# Altium integrated library Analog Devices Data Converters Digital-to-Analog Converters.IntLib: 2231 symbols (part 150 of 181)
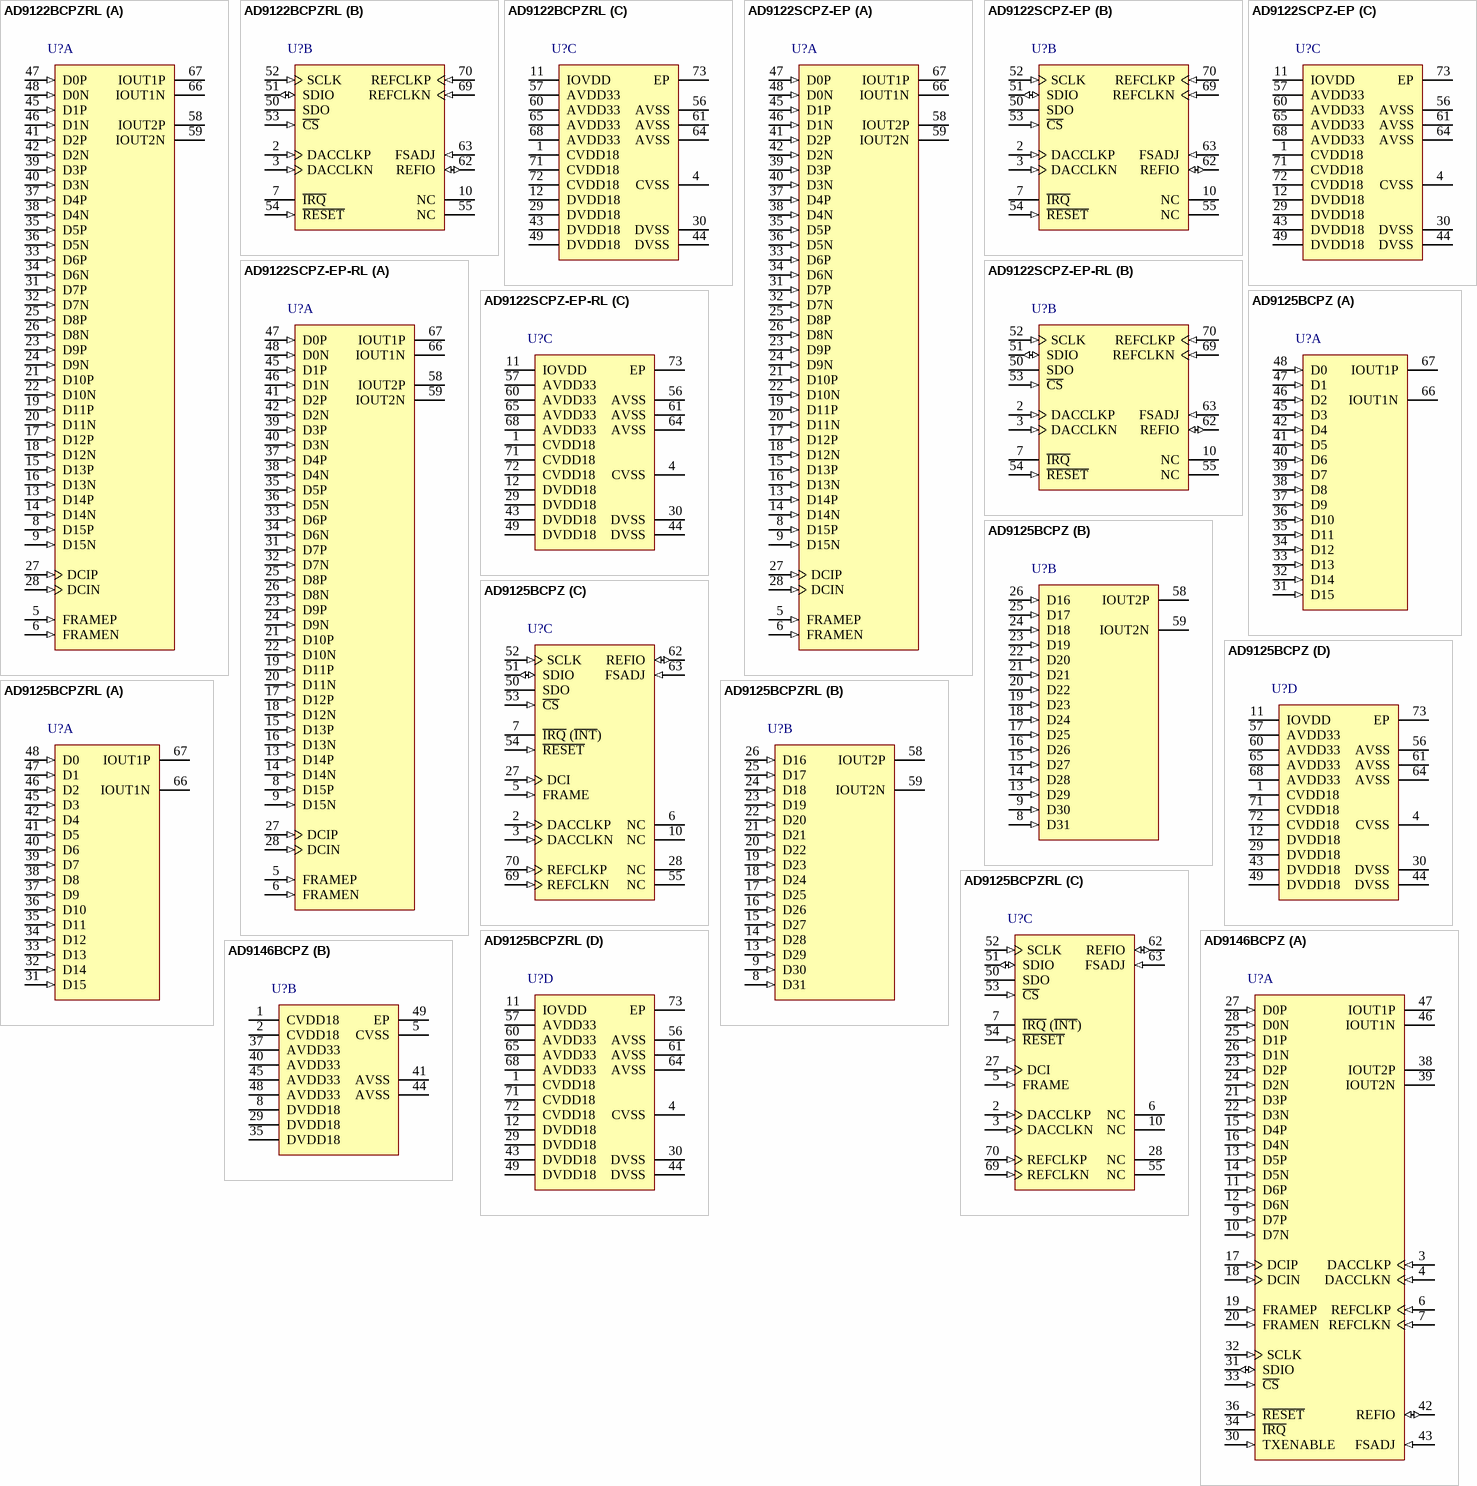
[diagram p263: symbols AD9122BCPZRL to AD9146BCPZ]

## AD9146BCPZ
designator U?
Dual 16-Bit TxDAC, 1230 Msps, -40 to +85 degC, CP-48-13, Pb-Free, Tray; Generic Part Number: AD9146; Manufacturer: Analog Devices; PartNumber: AD9146BCPZ; # DAC Outputs: 2; Max V+: 3.47V; Op Pwr Diss: 1.2W; Resolution (Bits): 16; Single Supply: No; DatasheetVersion: Rev.A; PackageVersion: 04-26-2010-A; PackageReference: CP-48-13; PackageDescription: 48-Lead Lead Frame Chip Scale Package [LFCSP_WQ] 7 x 7 mm Body, Very Very Thin Quad; Supplier 1: Digi-Key; Supplier Part Number 1: AD9146BCPZ-ND; Supplier 2: Farnell; Supplier Part Number 2: 1903601; Supplier 3: Newark; Supplier Part Number 3: 39T6560; Supplier 4: Mouser; Supplier Part Number 4: 584-AD9146BCPZ; Packing: Tray; RoHS: Y; Mounting Technology: Surface Mount; Code_JEDEC: MO-220-WKKD; ComponentLink1Description: Manufacturer URL; ComponentLink1URL: http://www.analog.com/en/index.html; ComponentLink2Description: Datasheet; ComponentLink2URL: http://www.analog.com/static/imported-files/data_sheets/AD9146.PDF; ComponentLink3Description: Package Specification; ComponentLink3URL: http://www.analog.com/static/imported-files/packages/PKG_PDF/LFCSP(CP)/CP_48_13.pdf; ComponentLink4Description: Product URL; ComponentLink4URL: http://www.analog.com/en/digital-to-analog-converters/da-converters/ad9146/products/product.html
footprint CP-48-13_N (QFN, 48-Leads, Body 7x7mm, Pitch 0.5mm, Thermal Pad 5.6x5.6mm, IPC Medium Density)
footprint CP-48-13_L (QFN, 48-Leads, Body 7x7mm, Pitch 0.5mm, Thermal Pad 5.6x5.6mm, IPC High Density)
footprint CP-48-13_M (QFN, 48-Leads, Body 7x7mm, Pitch 0.5mm, Thermal Pad 5.6x5.6mm, IPC Low Density)
part A pins: 3 DACCLKP (in) "DAC Clock Input, Positive.", 4 DACCLKN (in) "DAC Clock Input, Negative.", 6 REFCLKP (in) "PLL Reference Clock Input, Positive. This pin has a secondary function as a synchronization input.", 7 REFCLKN (in) "PLL Reference Clock Input, Negative. This pin has a secondary function as a synchronization input.", 9 D7P (in) "Data Bit 7 (MSB), Positive.", 10 D7N (in) "Data Bit 7 (MSB), Negative.", 11 D6P (in) "Data Bit 6, Positive.", 12 D6N (in) "Data Bit 6, Negative.", 13 D5P (in) "Data Bit 5, Positive.", 14 D5N (in) "Data Bit 5, Negative.", 15 D4P (in) "Data Bit 4, Positive.", 16 D4N (in) "Data Bit 4, Negative.", 17 DCIP (in) "Data Clock Input, Positive.", 18 DCIN (in) "Data Clock Input, Negative.", 19 FRAMEP (in) "Frame Input, Positive.", 20 FRAMEN (in) "Frame Input, Negative.", 21 D3P (in) "Data Bit 3, Positive.", 22 D3N (in) "Data Bit 3, Negative.", 23 D2P (in) "Data Bit 2, Positive.", 24 D2N (in) "Data Bit 2, Negative.", 25 D1P (in) "Data Bit 1, Positive.", 26 D1N (in) "Data Bit 1, Negative.", 27 D0P (in) "Data Bit 0 (LSB), Positive.", 28 D0N (in) "Data Bit 0 (LSB), Negative.", 30 TXENABLE (in) "Active High Transmit Path Enable (CMOS). A low level on this pin clamps the DAC outputs to midscale.", 31 SDIO (io) "Serial Port Data Input/Output (CMOS).", 32 SCLK (in) "Serial Port Clock Input (CMOS).", 33 ~{CS} (in) "Serial Port Chip Select, Active Low (CMOS).", 34 ~{IRQ} (oc) "Interrupt Request. Open-drain, active low output. Pull this pin high external to the device.", 36 ~{RESET} (in) "Reset, Active Low (CMOS).", 38 IOUT2P (hiz) "Q DAC Positive Current Output.", 39 IOUT2N (hiz) "Q DAC Negative Current Output.", 42 REFIO (io) "1.2 V Band Gap Voltage Reference Output. Should be decoupled to AVSS with a 0.1 uF capacitor.", 43 FSADJ (in) "Full-Scale Current Output Adjust. Place a 10 kO resistor from this pin to AVSS.", 46 IOUT1N (hiz) "I DAC Negative Current Output.", 47 IOUT1P (hiz) "I DAC Positive Current Output."
part B pins: 1 CVDD18 (power) "1.8 V Clock Supply. Supplies clock receivers, clock distribution, and PLL circuitry.", 2 CVDD18 (power) "1.8 V Clock Supply. Supplies clock receivers, clock distribution, and PLL circuitry.", 5 CVSS (power) "Clock Supply Common.", 8 DVDD18 (power) "1.8 V Digital Supply. Supplies power to digital core and digital data ports.", 29 DVDD18 (power) "1.8 V Digital Supply. Supplies power to digital core and digital data ports.", 35 DVDD18 (power) "1.8 V Digital Supply. Supplies power to digital core and digital data ports.", 37 AVDD33 (power) "3.3 V Analog Supply.", 40 AVDD33 (power) "3.3 V Analog Supply.", 41 AVSS (power) "Analog Supply Common.", 44 AVSS (power) "Analog Supply Common.", 45 AVDD33 (power) "3.3 V Analog Supply.", 48 AVDD33 (power) "3.3 V Analog Supply.", 49 EP (power) "The exposed pad (EPAD) must be soldered to the ground plane (AVSS). The EPAD provides an electrical,thermal, and mechanical connection to the board."

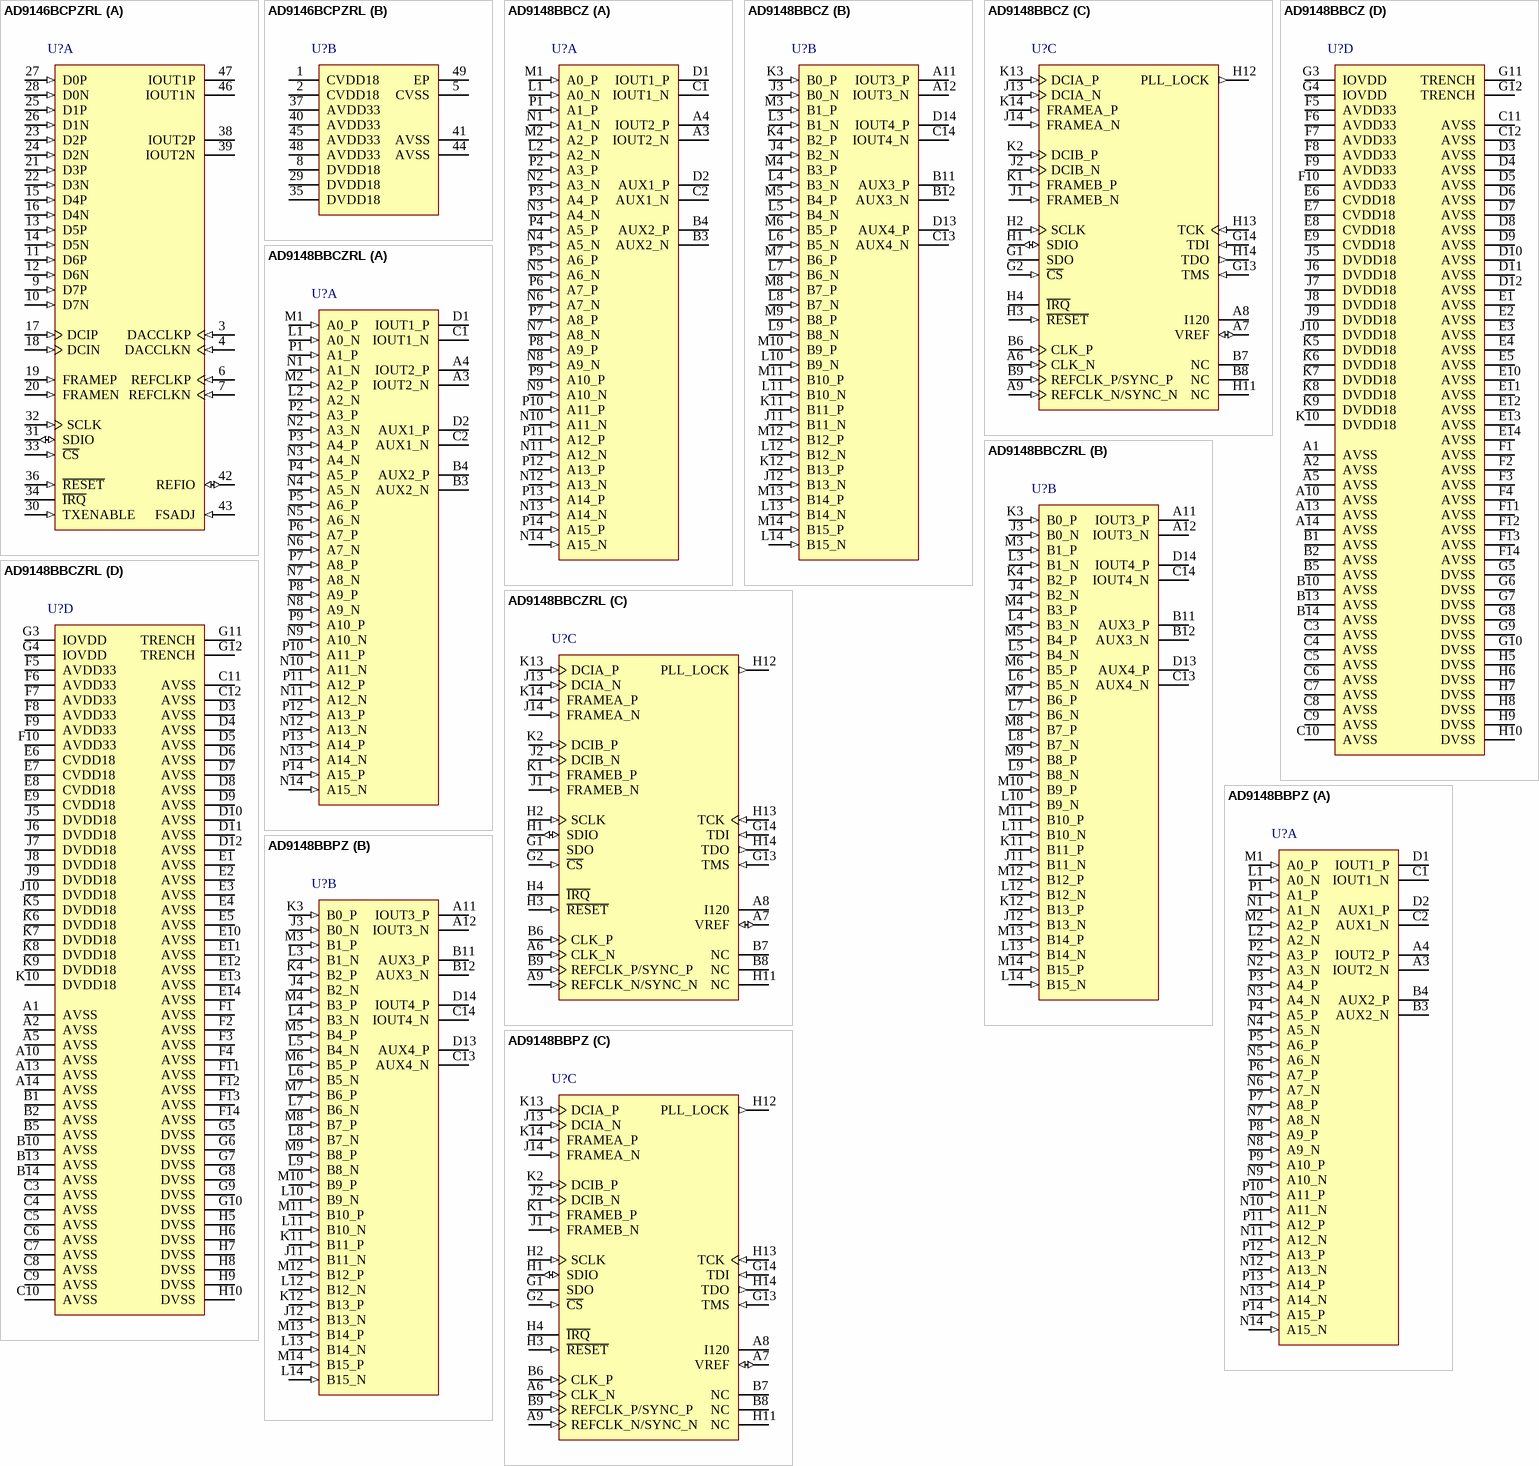
[diagram p85: symbols AD9146BCPZRL to AD9148BBPZ]

## AD9146BCPZRL
designator U?
Dual 16-Bit TxDAC, 1230 Msps, -40 to +85 degC, CP-48-13, Pb-Free, Reel; Generic Part Number: AD9146; Manufacturer: Analog Devices; PartNumber: AD9146BCPZRL; # DAC Outputs: 2; Max V+: 3.47V; Op Pwr Diss: 1.2W; Resolution (Bits): 16; Single Supply: No; DatasheetVersion: Rev.A; PackageVersion: 04-26-2010-A; PackageReference: CP-48-13; PackageDescription: 48-Lead Lead Frame Chip Scale Package [LFCSP_WQ] 7 x 7 mm Body, Very Very Thin Quad; Supplier 1: Digi-Key; Supplier Part Number 1: AD9146BCPZRL-ND; Supplier 2: Mouser; Supplier Part Number 2: 584-AD9146BCPZR; Packing: Reel; RoHS: Y; Mounting Technology: Surface Mount; Code_JEDEC: MO-220-WKKD; ComponentLink1Description: Manufacturer URL; ComponentLink1URL: http://www.analog.com/en/index.html; ComponentLink2Description: Datasheet; ComponentLink2URL: http://www.analog.com/static/imported-files/data_sheets/AD9146.PDF; ComponentLink3Description: Package Specification; ComponentLink3URL: http://www.analog.com/static/imported-files/packages/PKG_PDF/LFCSP(CP)/CP_48_13.pdf; ComponentLink4Description: Product URL; ComponentLink4URL: http://www.analog.com/en/digital-to-analog-converters/da-converters/ad9146/products/product.html
footprint CP-48-13_N (QFN, 48-Leads, Body 7x7mm, Pitch 0.5mm, Thermal Pad 5.6x5.6mm, IPC Medium Density)
footprint CP-48-13_L (QFN, 48-Leads, Body 7x7mm, Pitch 0.5mm, Thermal Pad 5.6x5.6mm, IPC High Density)
footprint CP-48-13_M (QFN, 48-Leads, Body 7x7mm, Pitch 0.5mm, Thermal Pad 5.6x5.6mm, IPC Low Density)
part A pins: 3 DACCLKP (in) "DAC Clock Input, Positive.", 4 DACCLKN (in) "DAC Clock Input, Negative.", 6 REFCLKP (in) "PLL Reference Clock Input, Positive. This pin has a secondary function as a synchronization input.", 7 REFCLKN (in) "PLL Reference Clock Input, Negative. This pin has a secondary function as a synchronization input.", 9 D7P (in) "Data Bit 7 (MSB), Positive.", 10 D7N (in) "Data Bit 7 (MSB), Negative.", 11 D6P (in) "Data Bit 6, Positive.", 12 D6N (in) "Data Bit 6, Negative.", 13 D5P (in) "Data Bit 5, Positive.", 14 D5N (in) "Data Bit 5, Negative.", 15 D4P (in) "Data Bit 4, Positive.", 16 D4N (in) "Data Bit 4, Negative.", 17 DCIP (in) "Data Clock Input, Positive.", 18 DCIN (in) "Data Clock Input, Negative.", 19 FRAMEP (in) "Frame Input, Positive.", 20 FRAMEN (in) "Frame Input, Negative.", 21 D3P (in) "Data Bit 3, Positive.", 22 D3N (in) "Data Bit 3, Negative.", 23 D2P (in) "Data Bit 2, Positive.", 24 D2N (in) "Data Bit 2, Negative.", 25 D1P (in) "Data Bit 1, Positive.", 26 D1N (in) "Data Bit 1, Negative.", 27 D0P (in) "Data Bit 0 (LSB), Positive.", 28 D0N (in) "Data Bit 0 (LSB), Negative.", 30 TXENABLE (in) "Active High Transmit Path Enable (CMOS). A low level on this pin clamps the DAC outputs to midscale.", 31 SDIO (io) "Serial Port Data Input/Output (CMOS).", 32 SCLK (in) "Serial Port Clock Input (CMOS).", 33 ~{CS} (in) "Serial Port Chip Select, Active Low (CMOS).", 34 ~{IRQ} (oc) "Interrupt Request. Open-drain, active low output. Pull this pin high external to the device.", 36 ~{RESET} (in) "Reset, Active Low (CMOS).", 38 IOUT2P (hiz) "Q DAC Positive Current Output.", 39 IOUT2N (hiz) "Q DAC Negative Current Output.", 42 REFIO (io) "1.2 V Band Gap Voltage Reference Output. Should be decoupled to AVSS with a 0.1 uF capacitor.", 43 FSADJ (in) "Full-Scale Current Output Adjust. Place a 10 kO resistor from this pin to AVSS.", 46 IOUT1N (hiz) "I DAC Negative Current Output.", 47 IOUT1P (hiz) "I DAC Positive Current Output."
part B pins: 1 CVDD18 (power) "1.8 V Clock Supply. Supplies clock receivers, clock distribution, and PLL circuitry.", 2 CVDD18 (power) "1.8 V Clock Supply. Supplies clock receivers, clock distribution, and PLL circuitry.", 5 CVSS (power) "Clock Supply Common.", 8 DVDD18 (power) "1.8 V Digital Supply. Supplies power to digital core and digital data ports.", 29 DVDD18 (power) "1.8 V Digital Supply. Supplies power to digital core and digital data ports.", 35 DVDD18 (power) "1.8 V Digital Supply. Supplies power to digital core and digital data ports.", 37 AVDD33 (power) "3.3 V Analog Supply.", 40 AVDD33 (power) "3.3 V Analog Supply.", 41 AVSS (power) "Analog Supply Common.", 44 AVSS (power) "Analog Supply Common.", 45 AVDD33 (power) "3.3 V Analog Supply.", 48 AVDD33 (power) "3.3 V Analog Supply.", 49 EP (power) "The exposed pad (EPAD) must be soldered to the ground plane (AVSS). The EPAD provides an electrical,thermal, and mechanical connection to the board."

## AD9148BBCZ
designator U?
Quad 16-Bit TxDAC, 1 Gsps, -40 to +85 degC, BC-196-7, Pb-Free, Tray; Generic Part Number: AD9148; Manufacturer: Analog Devices; PartNumber: AD9148BBCZ; # DAC Outputs: 4; Max V+: 3.47V; Op Pwr Diss: 3W; Resolution (Bits): 16; Single Supply: No; DatasheetVersion: Rev.B; PackageVersion: 11-18-2011-B; PackageReference: BC-196-7; PackageDescription: 196-Ball Chip Scale Package Ball Grid Array [CSP_BGA]; Supplier 1: Digi-Key; Supplier Part Number 1: AD9148BBCZ-ND; Supplier 2: Newark; Supplier Part Number 2: 74R6014; Supplier 3: Mouser; Supplier Part Number 3: 584-AD9148BBCZ; Packing: Tray; RoHS: Y; Mounting Technology: Surface Mount; Code_JEDEC: MO-275-GGAB-1; ComponentLink1Description: Manufacturer URL; ComponentLink1URL: http://www.analog.com/en/index.html; ComponentLink2Description: Datasheet; ComponentLink2URL: http://www.analog.com/static/imported-files/data_sheets/AD9148.pdf; ComponentLink3Description: Package Specification; ComponentLink3URL: http://www.analog.com/static/imported-files/packages/PKG_PDF/CSPBGA%20(BC)/BC_196_7.pdf; ComponentLink4Description: Product URL; ComponentLink4URL: http://www.analog.com/en/digital-to-analog-converters/da-converters/ad9148/products/product.html
footprint BC-196-7 (BGA, 196-Leads, Body 12x12mm, Pitch 0.8mm)
part A pins: A3 IOUT2_N (hiz) "DAC 2 Complementary Output Current.", A4 IOUT2_P (hiz) "DAC 2 Positive Output Current.", B3 AUX2_N (hiz) "Auxiliary DAC 2 Complementary Output Current.", B4 AUX2_P (hiz) "Auxiliary DAC 2 Positive Output Current.", C1 IOUT1_N (hiz) "DAC 1 Complementary Output Current.", C2 AUX1_N (hiz) "Auxiliary DAC 1 Complementary Output Current.", D1 IOUT1_P (hiz) "DAC 1 Positive Output Current.", D2 AUX1_P (hiz) "Auxiliary DAC 1 Positive Output Current.", L1 A0_N (in) "LVDS Data Input Pair, Port A (LSB).", L2 A2_N (in) "LVDS Data Input Pair, Port A.", M1 A0_P (in) "LVDS Data Input Pair, Port A (LSB).", M2 A2_P (in) "LVDS Data Input Pair, Port A.", N1 A1_N (in) "LVDS Data Input Pair, Port A.", N2 A3_N (in) "LVDS Data Input Pair, Port A.", N3 A4_N (in) "LVDS Data Input Pair, Port A.", N4 A5_N (in) "LVDS Data Input Pair, Port A.", N5 A6_N (in) "LVDS Data Input Pair, Port A.", N6 A7_N (in) "LVDS Data Input Pair, Port A.", N7 A8_N (in) "LVDS Data Input Pair, Port A.", N8 A9_N (in) "LVDS Data Input Pair, Port A.", N9 A10_N (in) "LVDS Data Input Pair, Port A.", N10 A11_N (in) "LVDS Data Input Pair, Port A.", N11 A12_N (in) "LVDS Data Input Pair, Port A.", N12 A13_N (in) "LVDS Data Input Pair, Port A.", N13 A14_N (in) "LVDS Data Input Pair, Port A.", N14 A15_N (in) "LVDS Data Input Pair, Port A (MSB).", P1 A1_P (in) "LVDS Data Input Pair, Port A.", P2 A3_P (in) "LVDS Data Input Pair, Port A.", P3 A4_P (in) "LVDS Data Input Pair, Port A.", P4 A5_P (in) "LVDS Data Input Pair, Port A.", P5 A6_P (in) "LVDS Data Input Pair, Port A.", P6 A7_P (in) "LVDS Data Input Pair, Port A.", P7 A8_P (in) "LVDS Data Input Pair, Port A.", P8 A9_P (in) "LVDS Data Input Pair, Port A.", P9 A10_P (in) "LVDS Data Input Pair, Port A.", P10 A11_P (in) "LVDS Data Input Pair, Port A.", P11 A12_P (in) "LVDS Data Input Pair, Port A.", P12 A13_P (in) "LVDS Data Input Pair, Port A.", P13 A14_P (in) "LVDS Data Input Pair, Port A.", P14 A15_P (in) "LVDS Data Input Pair, Port A (MSB)."
part B pins: A11 IOUT3_P (hiz) "DAC 3 Positive Output Current.", A12 IOUT3_N (hiz) "DAC 3 Complementary Output Current.", B11 AUX3_P (hiz) "Auxiliary DAC 3 Positive Output Current.", B12 AUX3_N (hiz) "Auxiliary DAC 3 Complementary Output Current.", C13 AUX4_N (hiz) "Auxiliary DAC 4 Complementary Output Current.", C14 IOUT4_N (hiz) "DAC 4 Complementary Output Current.", D13 AUX4_P (hiz) "Auxiliary DAC 4 Positive Output Current.", D14 IOUT4_P (hiz) "DAC 4 Positive Output Current.", J3 B0_N (in) "LVDS Data Input Pair, Port B (LSB).", J4 B2_N (in) "LVDS Data Input Pair, Port B.", J11 B11_N (in) "LVDS Data Input Pair, Port B.", J12 B13_N (in) "LVDS Data Input Pair, Port B.", K3 B0_P (in) "LVDS Data Input Pair, Port B (LSB).", K4 B2_P (in) "LVDS Data Input Pair, Port B.", K11 B11_P (in) "LVDS Data Input Pair, Port B.", K12 B13_P (in) "LVDS Data Input Pair, Port B.", L3 B1_N (in) "LVDS Data Input Pair, Port B.", L4 B3_N (in) "LVDS Data Input Pair, Port B.", L5 B4_N (in) "LVDS Data Input Pair, Port B.", L6 B5_N (in) "LVDS Data Input Pair, Port B.", L7 B6_N (in) "LVDS Data Input Pair, Port B.", L8 B7_N (in) "LVDS Data Input Pair, Port B.", L9 B8_N (in) "LVDS Data Input Pair, Port B.", L10 B9_N (in) "LVDS Data Input Pair, Port B.", L11 B10_N (in) "LVDS Data Input Pair, Port B.", L12 B12_N (in) "LVDS Data Input Pair, Port B.", L13 B14_N (in) "LVDS Data Input Pair, Port B.", L14 B15_N (in) "LVDS Data Input Pair, Port B (MSB).", M3 B1_P (in) "LVDS Data Input Pair, Port B.", M4 B3_P (in) "LVDS Data Input Pair, Port B.", M5 B4_P (in) "LVDS Data Input Pair, Port B.", M6 B5_P (in) "LVDS Data Input Pair, Port B.", M7 B6_P (in) "LVDS Data Input Pair, Port B.", M8 B7_P (in) "LVDS Data Input Pair, Port B.", M9 B8_P (in) "LVDS Data Input Pair, Port B.", M10 B9_P (in) "LVDS Data Input Pair, Port B.", M11 B10_P (in) "LVDS Data Input Pair, Port B.", M12 B12_P (in) "LVDS Data Input Pair, Port B.", M13 B14_P (in) "LVDS Data Input Pair, Port B.", M14 B15_P (in) "LVDS Data Input Pair, Port B (MSB)."
part C pins: A6 CLK_N (in) "Negative DAC Clock Input (CLK).", A7 VREF (io) "Band Gap Voltage Reference I/O. Decouple to analog ground via a 0.1 uF capacitor. Output impedance is approximately 5 kohm.", A8 I120 "Tie to analog ground via a 10 kohm resistor to generate a 120 uA reference current.", A9 REFCLK_N/SYNC_N (in) "PLL Reference Clock Input (REFCLK_N). This pin has a secondary function as a synchronization input (SYNC_N).", B6 CLK_P (in) "Positive DAC Clock Input (CLK).", B7 NC "No Connect. Do not connect to this pin.", B8 NC "No Connect. Do not connect to this pin.", B9 REFCLK_P/SYNC_P (in) "PLL Reference Clock Input (REFCLK_P). This pin has a secondary function as a synchronization input (SYNC_P).", G1 SDO (hiz) "Serial Data Output for SPI.", G2 ~{CS} (in) "Active Low Chip Select for SPI.", G13 TMS (in) "Reserved for Future Use. Connect to DVSS.", G14 TDI (in) "Reserved for Future Use. Connect to DVSS.", H1 SDIO (io) "Serial Data Input/Output for SPI.", H2 SCLK (in) "Qualifying Clock Input for SPI.", H3 ~{RESET} (in) "An active low LVCMOS input resets the device. Pull up to IOVDD.", H4 ~{IRQ} (oc) "Active Low Open-Drain Interrupt Request Output. Pull up to IOVDD with a 10 kohm resistor.", H11 NC "No Connect. Do not connect to this pin.", H12 PLL_LOCK (out) "Active High LVCMOS Output. It indicates the lock status of the PLL circuitry.", H13 TCK (in) "Reserved for Future Use. Connect to DVSS.", H14 TDO (out) "Reserved for Future Use. Leave unconnected.", J1 FRAMEB_N (in) "LVDS Frame Input for Port B. Tie to LVDS logic low if not used. Recommended external bias circuit is shown in Figure 49.", J2 DCIB_N (in) "LVDS Data Clock Input Pair for Port B.", J13 DCIA_N (in) "LVDS Data Clock Input Pair for Port A.", J14 FRAMEA_N (in) "LVDS Frame Input for Port A. Tie to LVDS logic low if not used. Recommended external bias circuit is shown in Figure 49.", K1 FRAMEB_P (in) "LVDS Frame Input for Port B. Tie to LVDS logic low if not used. Recommended external bias circuit is shown in Figure 49.", K2 DCIB_P (in) "LVDS Data Clock Input Pair for Port B.", K13 DCIA_P (in) "LVDS Data Clock Input Pair for Port A.", K14 FRAMEA_P (in) "LVDS Frame Input for Port A. Tie to LVDS logic low if not used. Recommended external bias circuit is shown in Figure 49."
part D pins: A1 AVSS (power) "Analog Supply Ground.", A2 AVSS (power) "Analog Supply Ground.", A5 AVSS (power) "Analog Supply Ground.", A10 AVSS (power) "Analog Supply Ground.", A13 AVSS (power) "Analog Supply Ground.", A14 AVSS (power) "Analog Supply Ground.", B1 AVSS (power) "Analog Supply Ground.", B2 AVSS (power) "Analog Supply Ground.", B5 AVSS (power) "Analog Supply Ground.", B10 AVSS (power) "Analog Supply Ground.", B13 AVSS (power) "Analog Supply Ground.", B14 AVSS (power) "Analog Supply Ground.", C3 AVSS (power) "Analog Supply Ground.", C4 AVSS (power) "Analog Supply Ground.", C5 AVSS (power) "Analog Supply Ground.", C6 AVSS (power) "Analog Supply Ground.", C7 AVSS (power) "Analog Supply Ground.", C8 AVSS (power) "Analog Supply Ground.", C9 AVSS (power) "Analog Supply Ground.", C10 AVSS (power) "Analog Supply Ground.", C11 AVSS (power) "Analog Supply Ground.", C12 AVSS (power) "Analog Supply Ground.", D3 AVSS (power) "Analog Supply Ground.", D4 AVSS (power) "Analog Supply Ground.", D5 AVSS (power) "Analog Supply Ground.", D6 AVSS (power) "Analog Supply Ground.", D7 AVSS (power) "Analog Supply Ground.", D8 AVSS (power) "Analog Supply Ground.", D9 AVSS (power) "Analog Supply Ground.", D10 AVSS (power) "Analog Supply Ground.", D11 AVSS (power) "Analog Supply Ground.", D12 AVSS (power) "Analog Supply Ground.", E1 AVSS (power) "Analog Supply Ground.", E2 AVSS (power) "Analog Supply Ground.", E3 AVSS (power) "Analog Supply Ground.", E4 AVSS (power) "Analog Supply Ground.", E5 AVSS (power) "Analog Supply Ground.", E6 CVDD18 (power) "1.8 V Clock Supply.", E7 CVDD18 (power) "1.8 V Clock Supply.", E8 CVDD18 (power) "1.8 V Clock Supply.", E9 CVDD18 (power) "1.8 V Clock Supply.", E10 AVSS (power) "Analog Supply Ground.", E11 AVSS (power) "Analog Supply Ground.", E12 AVSS (power) "Analog Supply Ground.", E13 AVSS (power) "Analog Supply Ground.", E14 AVSS (power) "Analog Supply Ground.", F1 AVSS (power) "Analog Supply Ground.", F2 AVSS (power) "Analog Supply Ground.", F3 AVSS (power) "Analog Supply Ground.", F4 AVSS (power) "Analog Supply Ground.", F5 AVDD33 (power) "3.3 V Analog Supply.", F6 AVDD33 (power) "3.3 V Analog Supply.", F7 AVDD33 (power) "3.3 V Analog Supply.", F8 AVDD33 (power) "3.3 V Analog Supply.", F9 AVDD33 (power) "3.3 V Analog Supply.", F10 AVDD33 (power) "3.3 V Analog Supply.", F11 AVSS (power) "Analog Supply Ground.", F12 AVSS (power) "Analog Supply Ground.", F13 AVSS (power) "Analog Supply Ground.", F14 AVSS (power) "Analog Supply Ground.", G3 IOVDD (power) "Supply for Serial Ports (SPI and TAP), R\E\S\E\T\ and I\R\Q\. 1.8 V to 3.3 V can be supplied to these pins.", G4 IOVDD (power) "Supply for Serial Ports (SPI and TAP), R\E\S\E\T\ and I\R\Q\. 1.8 V to 3.3 V can be supplied to these pins.", G5 DVSS (power) "Digital Supply Ground.", G6 DVSS (power) "Digital Supply Ground.", G7 DVSS (power) "Digital Supply Ground.", G8 DVSS (power) "Digital Supply Ground.", G9 DVSS (power) "Digital Supply Ground.", G10 DVSS (power) "Digital Supply Ground.", G11 TRENCH (power) "Connect this pin to VSS.", G12 TRENCH (power) "Connect this pin to VSS.", H5 DVSS (power) "Digital Supply Ground.", H6 DVSS (power) "Digital Supply Ground.", H7 DVSS (power) "Digital Supply Ground.", H8 DVSS (power) "Digital Supply Ground.", H9 DVSS (power) "Digital Supply Ground.", H10 DVSS (power) "Digital Supply Ground.", J5 DVDD18 (power) "1.8 V Digital Supply.", J6 DVDD18 (power) "1.8 V Digital Supply.", J7 DVDD18 (power) "1.8 V Digital Supply.", J8 DVDD18 (power) "1.8 V Digital Supply.", J9 DVDD18 (power) "1.8 V Digital Supply.", J10 DVDD18 (power) "1.8 V Digital Supply.", K5 DVDD18 (power) "1.8 V Digital Supply.", K6 DVDD18 (power) "1.8 V Digital Supply.", K7 DVDD18 (power) "1.8 V Digital Supply.", K8 DVDD18 (power) "1.8 V Digital Supply.", K9 DVDD18 (power) "1.8 V Digital Supply.", K10 DVDD18 (power) "1.8 V Digital Supply."

## AD9148BBCZRL
designator U?
Quad 16-Bit TxDAC, 1 Gsps, -40 to +85 degC, BC-196-7, Pb-Free, Reel; Generic Part Number: AD9148; Manufacturer: Analog Devices; PartNumber: AD9148BBCZRL; # DAC Outputs: 4; Max V+: 3.47V; Op Pwr Diss: 3W; Resolution (Bits): 16; Single Supply: No; DatasheetVersion: Rev.B; PackageVersion: 11-18-2011-B; PackageReference: BC-196-7; PackageDescription: 196-Ball Chip Scale Package Ball Grid Array [CSP_BGA]; Supplier 1: Digi-Key; Supplier Part Number 1: AD9148BBCZRL-ND; Supplier 2: Mouser; Supplier Part Number 2: 584-AD9148BBCZR; Packing: Reel; RoHS: Y; Mounting Technology: Surface Mount; Code_JEDEC: MO-275-GGAB-1; ComponentLink1Description: Manufacturer URL; ComponentLink1URL: http://www.analog.com/en/index.html; ComponentLink2Description: Datasheet; ComponentLink2URL: http://www.analog.com/static/imported-files/data_sheets/AD9148.pdf; ComponentLink3Description: Package Specification; ComponentLink3URL: http://www.analog.com/static/imported-files/packages/PKG_PDF/CSPBGA%20(BC)/BC_196_7.pdf; ComponentLink4Description: Product URL; ComponentLink4URL: http://www.analog.com/en/digital-to-analog-converters/da-converters/ad9148/products/product.html
footprint BC-196-7 (BGA, 196-Leads, Body 12x12mm, Pitch 0.8mm)
part A pins: A3 IOUT2_N (hiz) "DAC 2 Complementary Output Current.", A4 IOUT2_P (hiz) "DAC 2 Positive Output Current.", B3 AUX2_N (hiz) "Auxiliary DAC 2 Complementary Output Current.", B4 AUX2_P (hiz) "Auxiliary DAC 2 Positive Output Current.", C1 IOUT1_N (hiz) "DAC 1 Complementary Output Current.", C2 AUX1_N (hiz) "Auxiliary DAC 1 Complementary Output Current.", D1 IOUT1_P (hiz) "DAC 1 Positive Output Current.", D2 AUX1_P (hiz) "Auxiliary DAC 1 Positive Output Current.", L1 A0_N (in) "LVDS Data Input Pair, Port A (LSB).", L2 A2_N (in) "LVDS Data Input Pair, Port A.", M1 A0_P (in) "LVDS Data Input Pair, Port A (LSB).", M2 A2_P (in) "LVDS Data Input Pair, Port A.", N1 A1_N (in) "LVDS Data Input Pair, Port A.", N2 A3_N (in) "LVDS Data Input Pair, Port A.", N3 A4_N (in) "LVDS Data Input Pair, Port A.", N4 A5_N (in) "LVDS Data Input Pair, Port A.", N5 A6_N (in) "LVDS Data Input Pair, Port A.", N6 A7_N (in) "LVDS Data Input Pair, Port A.", N7 A8_N (in) "LVDS Data Input Pair, Port A.", N8 A9_N (in) "LVDS Data Input Pair, Port A.", N9 A10_N (in) "LVDS Data Input Pair, Port A.", N10 A11_N (in) "LVDS Data Input Pair, Port A.", N11 A12_N (in) "LVDS Data Input Pair, Port A.", N12 A13_N (in) "LVDS Data Input Pair, Port A.", N13 A14_N (in) "LVDS Data Input Pair, Port A.", N14 A15_N (in) "LVDS Data Input Pair, Port A (MSB).", P1 A1_P (in) "LVDS Data Input Pair, Port A.", P2 A3_P (in) "LVDS Data Input Pair, Port A.", P3 A4_P (in) "LVDS Data Input Pair, Port A.", P4 A5_P (in) "LVDS Data Input Pair, Port A.", P5 A6_P (in) "LVDS Data Input Pair, Port A.", P6 A7_P (in) "LVDS Data Input Pair, Port A.", P7 A8_P (in) "LVDS Data Input Pair, Port A.", P8 A9_P (in) "LVDS Data Input Pair, Port A.", P9 A10_P (in) "LVDS Data Input Pair, Port A.", P10 A11_P (in) "LVDS Data Input Pair, Port A.", P11 A12_P (in) "LVDS Data Input Pair, Port A.", P12 A13_P (in) "LVDS Data Input Pair, Port A.", P13 A14_P (in) "LVDS Data Input Pair, Port A.", P14 A15_P (in) "LVDS Data Input Pair, Port A (MSB)."
part B pins: A11 IOUT3_P (hiz) "DAC 3 Positive Output Current.", A12 IOUT3_N (hiz) "DAC 3 Complementary Output Current.", B11 AUX3_P (hiz) "Auxiliary DAC 3 Positive Output Current.", B12 AUX3_N (hiz) "Auxiliary DAC 3 Complementary Output Current.", C13 AUX4_N (hiz) "Auxiliary DAC 4 Complementary Output Current.", C14 IOUT4_N (hiz) "DAC 4 Complementary Output Current.", D13 AUX4_P (hiz) "Auxiliary DAC 4 Positive Output Current.", D14 IOUT4_P (hiz) "DAC 4 Positive Output Current.", J3 B0_N (in) "LVDS Data Input Pair, Port B (LSB).", J4 B2_N (in) "LVDS Data Input Pair, Port B.", J11 B11_N (in) "LVDS Data Input Pair, Port B.", J12 B13_N (in) "LVDS Data Input Pair, Port B.", K3 B0_P (in) "LVDS Data Input Pair, Port B (LSB).", K4 B2_P (in) "LVDS Data Input Pair, Port B.", K11 B11_P (in) "LVDS Data Input Pair, Port B.", K12 B13_P (in) "LVDS Data Input Pair, Port B.", L3 B1_N (in) "LVDS Data Input Pair, Port B.", L4 B3_N (in) "LVDS Data Input Pair, Port B.", L5 B4_N (in) "LVDS Data Input Pair, Port B.", L6 B5_N (in) "LVDS Data Input Pair, Port B.", L7 B6_N (in) "LVDS Data Input Pair, Port B.", L8 B7_N (in) "LVDS Data Input Pair, Port B.", L9 B8_N (in) "LVDS Data Input Pair, Port B.", L10 B9_N (in) "LVDS Data Input Pair, Port B.", L11 B10_N (in) "LVDS Data Input Pair, Port B.", L12 B12_N (in) "LVDS Data Input Pair, Port B.", L13 B14_N (in) "LVDS Data Input Pair, Port B.", L14 B15_N (in) "LVDS Data Input Pair, Port B (MSB).", M3 B1_P (in) "LVDS Data Input Pair, Port B.", M4 B3_P (in) "LVDS Data Input Pair, Port B.", M5 B4_P (in) "LVDS Data Input Pair, Port B.", M6 B5_P (in) "LVDS Data Input Pair, Port B.", M7 B6_P (in) "LVDS Data Input Pair, Port B.", M8 B7_P (in) "LVDS Data Input Pair, Port B.", M9 B8_P (in) "LVDS Data Input Pair, Port B.", M10 B9_P (in) "LVDS Data Input Pair, Port B.", M11 B10_P (in) "LVDS Data Input Pair, Port B.", M12 B12_P (in) "LVDS Data Input Pair, Port B.", M13 B14_P (in) "LVDS Data Input Pair, Port B.", M14 B15_P (in) "LVDS Data Input Pair, Port B (MSB)."
part C pins: A6 CLK_N (in) "Negative DAC Clock Input (CLK).", A7 VREF (io) "Band Gap Voltage Reference I/O. Decouple to analog ground via a 0.1 uF capacitor. Output impedance is approximately 5 kohm.", A8 I120 "Tie to analog ground via a 10 kohm resistor to generate a 120 uA reference current.", A9 REFCLK_N/SYNC_N (in) "PLL Reference Clock Input (REFCLK_N). This pin has a secondary function as a synchronization input (SYNC_N).", B6 CLK_P (in) "Positive DAC Clock Input (CLK).", B7 NC "No Connect. Do not connect to this pin.", B8 NC "No Connect. Do not connect to this pin.", B9 REFCLK_P/SYNC_P (in) "PLL Reference Clock Input (REFCLK_P). This pin has a secondary function as a synchronization input (SYNC_P).", G1 SDO (hiz) "Serial Data Output for SPI.", G2 ~{CS} (in) "Active Low Chip Select for SPI.", G13 TMS (in) "Reserved for Future Use. Connect to DVSS.", G14 TDI (in) "Reserved for Future Use. Connect to DVSS.", H1 SDIO (io) "Serial Data Input/Output for SPI.", H2 SCLK (in) "Qualifying Clock Input for SPI.", H3 ~{RESET} (in) "An active low LVCMOS input resets the device. Pull up to IOVDD.", H4 ~{IRQ} (oc) "Active Low Open-Drain Interrupt Request Output. Pull up to IOVDD with a 10 kohm resistor.", H11 NC "No Connect. Do not connect to this pin.", H12 PLL_LOCK (out) "Active High LVCMOS Output. It indicates the lock status of the PLL circuitry.", H13 TCK (in) "Reserved for Future Use. Connect to DVSS.", H14 TDO (out) "Reserved for Future Use. Leave unconnected.", J1 FRAMEB_N (in) "LVDS Frame Input for Port B. Tie to LVDS logic low if not used. Recommended external bias circuit is shown in Figure 49.", J2 DCIB_N (in) "LVDS Data Clock Input Pair for Port B.", J13 DCIA_N (in) "LVDS Data Clock Input Pair for Port A.", J14 FRAMEA_N (in) "LVDS Frame Input for Port A. Tie to LVDS logic low if not used. Recommended external bias circuit is shown in Figure 49.", K1 FRAMEB_P (in) "LVDS Frame Input for Port B. Tie to LVDS logic low if not used. Recommended external bias circuit is shown in Figure 49.", K2 DCIB_P (in) "LVDS Data Clock Input Pair for Port B.", K13 DCIA_P (in) "LVDS Data Clock Input Pair for Port A.", K14 FRAMEA_P (in) "LVDS Frame Input for Port A. Tie to LVDS logic low if not used. Recommended external bias circuit is shown in Figure 49."
part D pins: A1 AVSS (power) "Analog Supply Ground.", A2 AVSS (power) "Analog Supply Ground.", A5 AVSS (power) "Analog Supply Ground.", A10 AVSS (power) "Analog Supply Ground.", A13 AVSS (power) "Analog Supply Ground.", A14 AVSS (power) "Analog Supply Ground.", B1 AVSS (power) "Analog Supply Ground.", B2 AVSS (power) "Analog Supply Ground.", B5 AVSS (power) "Analog Supply Ground.", B10 AVSS (power) "Analog Supply Ground.", B13 AVSS (power) "Analog Supply Ground.", B14 AVSS (power) "Analog Supply Ground.", C3 AVSS (power) "Analog Supply Ground.", C4 AVSS (power) "Analog Supply Ground.", C5 AVSS (power) "Analog Supply Ground.", C6 AVSS (power) "Analog Supply Ground.", C7 AVSS (power) "Analog Supply Ground.", C8 AVSS (power) "Analog Supply Ground.", C9 AVSS (power) "Analog Supply Ground.", C10 AVSS (power) "Analog Supply Ground.", C11 AVSS (power) "Analog Supply Ground.", C12 AVSS (power) "Analog Supply Ground.", D3 AVSS (power) "Analog Supply Ground.", D4 AVSS (power) "Analog Supply Ground.", D5 AVSS (power) "Analog Supply Ground.", D6 AVSS (power) "Analog Supply Ground.", D7 AVSS (power) "Analog Supply Ground.", D8 AVSS (power) "Analog Supply Ground.", D9 AVSS (power) "Analog Supply Ground.", D10 AVSS (power) "Analog Supply Ground.", D11 AVSS (power) "Analog Supply Ground.", D12 AVSS (power) "Analog Supply Ground.", E1 AVSS (power) "Analog Supply Ground.", E2 AVSS (power) "Analog Supply Ground.", E3 AVSS (power) "Analog Supply Ground.", E4 AVSS (power) "Analog Supply Ground.", E5 AVSS (power) "Analog Supply Ground.", E6 CVDD18 (power) "1.8 V Clock Supply.", E7 CVDD18 (power) "1.8 V Clock Supply.", E8 CVDD18 (power) "1.8 V Clock Supply.", E9 CVDD18 (power) "1.8 V Clock Supply.", E10 AVSS (power) "Analog Supply Ground.", E11 AVSS (power) "Analog Supply Ground.", E12 AVSS (power) "Analog Supply Ground.", E13 AVSS (power) "Analog Supply Ground.", E14 AVSS (power) "Analog Supply Ground.", F1 AVSS (power) "Analog Supply Ground.", F2 AVSS (power) "Analog Supply Ground.", F3 AVSS (power) "Analog Supply Ground.", F4 AVSS (power) "Analog Supply Ground.", F5 AVDD33 (power) "3.3 V Analog Supply.", F6 AVDD33 (power) "3.3 V Analog Supply.", F7 AVDD33 (power) "3.3 V Analog Supply.", F8 AVDD33 (power) "3.3 V Analog Supply.", F9 AVDD33 (power) "3.3 V Analog Supply.", F10 AVDD33 (power) "3.3 V Analog Supply.", F11 AVSS (power) "Analog Supply Ground.", F12 AVSS (power) "Analog Supply Ground.", F13 AVSS (power) "Analog Supply Ground.", F14 AVSS (power) "Analog Supply Ground.", G3 IOVDD (power) "Supply for Serial Ports (SPI and TAP), R\E\S\E\T\ and I\R\Q\. 1.8 V to 3.3 V can be supplied to these pins.", G4 IOVDD (power) "Supply for Serial Ports (SPI and TAP), R\E\S\E\T\ and I\R\Q\. 1.8 V to 3.3 V can be supplied to these pins.", G5 DVSS (power) "Digital Supply Ground.", G6 DVSS (power) "Digital Supply Ground.", G7 DVSS (power) "Digital Supply Ground.", G8 DVSS (power) "Digital Supply Ground.", G9 DVSS (power) "Digital Supply Ground.", G10 DVSS (power) "Digital Supply Ground.", G11 TRENCH (power) "Connect this pin to VSS.", G12 TRENCH (power) "Connect this pin to VSS.", H5 DVSS (power) "Digital Supply Ground.", H6 DVSS (power) "Digital Supply Ground.", H7 DVSS (power) "Digital Supply Ground.", H8 DVSS (power) "Digital Supply Ground.", H9 DVSS (power) "Digital Supply Ground.", H10 DVSS (power) "Digital Supply Ground.", J5 DVDD18 (power) "1.8 V Digital Supply.", J6 DVDD18 (power) "1.8 V Digital Supply.", J7 DVDD18 (power) "1.8 V Digital Supply.", J8 DVDD18 (power) "1.8 V Digital Supply.", J9 DVDD18 (power) "1.8 V Digital Supply.", J10 DVDD18 (power) "1.8 V Digital Supply.", K5 DVDD18 (power) "1.8 V Digital Supply.", K6 DVDD18 (power) "1.8 V Digital Supply.", K7 DVDD18 (power) "1.8 V Digital Supply.", K8 DVDD18 (power) "1.8 V Digital Supply.", K9 DVDD18 (power) "1.8 V Digital Supply.", K10 DVDD18 (power) "1.8 V Digital Supply."

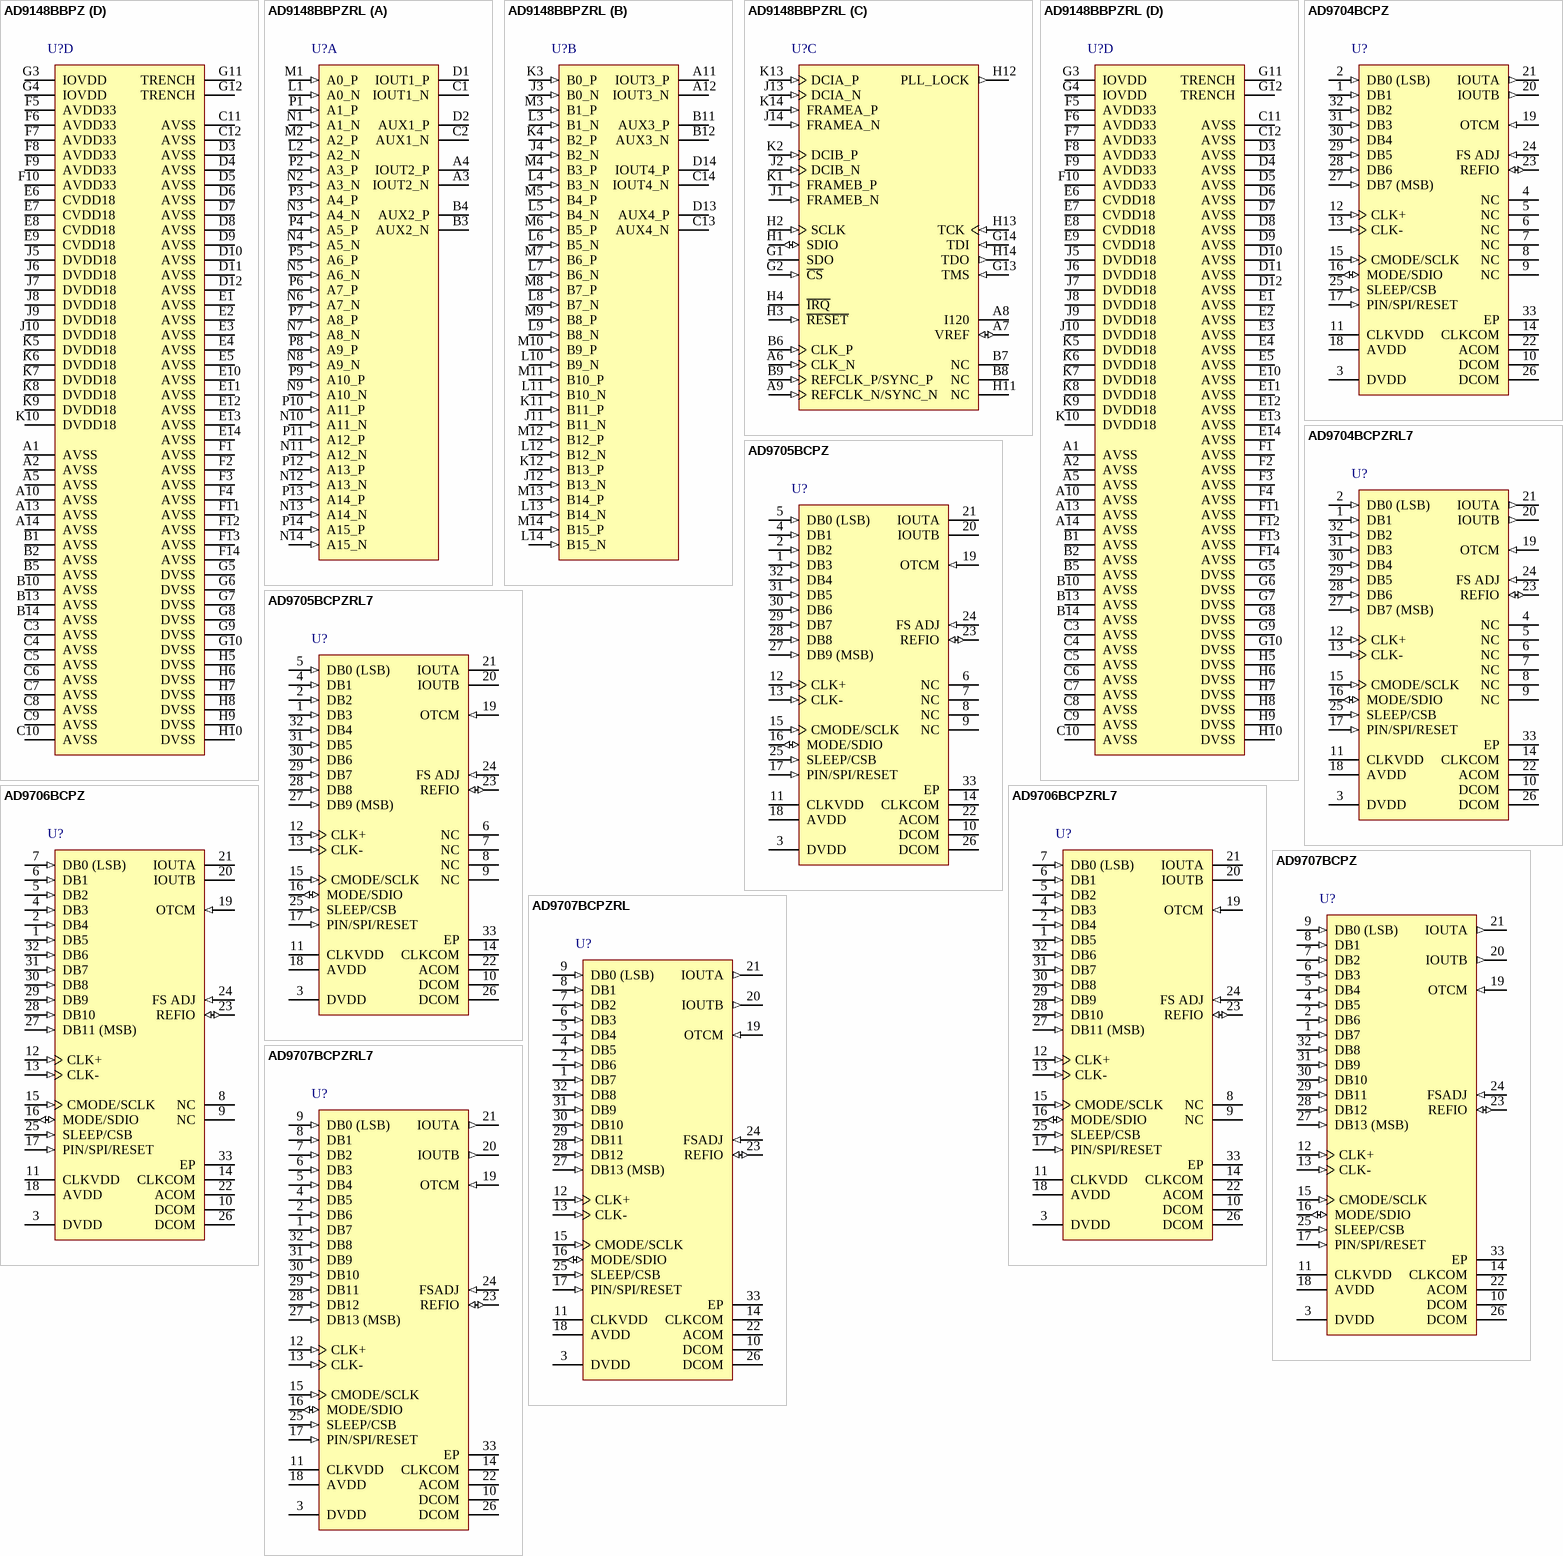
[diagram p86: symbols AD9148BBPZ to AD9707BCPZRL7]

## AD9148BBPZ
designator U?
Quad 16-Bit 1 Gsps TxDAC+ Digital-to-Analog Converter, -40 to +85 degC, BP-196-1, Pb-Free, Tray; Generic Part Number: AD9148; Manufacturer: Analog Devices; PartNumber: AD9148BBPZ; # DAC Outputs: 4; Max V+: 3.47V; Op Pwr Diss: 3W; Resolution (Bits): 16; Single Supply: No; DatasheetVersion: Rev.B; PackageVersion: 02-07-2012A; PackageReference: BP-196-1; PackageDescription: 196-Ball Ball Grid Array, Thermally Enhanced [BGA_ED]; Supplier 1: Digi-Key; Supplier Part Number 1: AD9148BBPZ-ND; Supplier 2: Newark; Supplier Part Number 2: 83R9368; Supplier 3: Mouser; Supplier Part Number 3: 584-AD9148BBPZ; Packing: Tray; RoHS: Y; Mounting Technology: Surface Mount; Code_JEDEC: MO-192; ComponentLink1Description: Manufacturer URL; ComponentLink1URL: http://www.analog.com/en/index.html; ComponentLink2Description: Datasheet; ComponentLink2URL: http://www.analog.com/static/imported-files/data_sheets/AD9148.pdf; ComponentLink3Description: Product URL; ComponentLink3URL: http://www.analog.com/en/digital-to-analog-converters/da-converters/ad9148/products/product.html
footprint BP-196-1 (BGA, 196-Leads, Body 12x12mm, Pitch 0.8mm)
part A pins: A3 IOUT2_N (hiz) "DAC 2 Complementary Output Current.", A4 IOUT2_P (hiz) "DAC 2 Positive Output Current.", B3 AUX2_N (hiz) "Auxiliary DAC 2 Complementary Output Current.", B4 AUX2_P (hiz) "Auxiliary DAC 2 Positive Output Current.", C1 IOUT1_N (hiz) "DAC 1 Complementary Output Current.", C2 AUX1_N (hiz) "Auxiliary DAC 1 Complementary Output Current.", D1 IOUT1_P (hiz) "DAC 1 Positive Output Current.", D2 AUX1_P (hiz) "Auxiliary DAC 1 Positive Output Current.", L1 A0_N (in) "LVDS Data Input Pair, Port A (LSB).", L2 A2_N (in) "LVDS Data Input Pair, Port A.", M1 A0_P (in) "LVDS Data Input Pair, Port A (LSB).", M2 A2_P (in) "LVDS Data Input Pair, Port A.", N1 A1_N (in) "LVDS Data Input Pair, Port A.", N2 A3_N (in) "LVDS Data Input Pair, Port A.", N3 A4_N (in) "LVDS Data Input Pair, Port A.", N4 A5_N (in) "LVDS Data Input Pair, Port A.", N5 A6_N (in) "LVDS Data Input Pair, Port A.", N6 A7_N (in) "LVDS Data Input Pair, Port A.", N7 A8_N (in) "LVDS Data Input Pair, Port A.", N8 A9_N (in) "LVDS Data Input Pair, Port A.", N9 A10_N (in) "LVDS Data Input Pair, Port A.", N10 A11_N (in) "LVDS Data Input Pair, Port A.", N11 A12_N (in) "LVDS Data Input Pair, Port A.", N12 A13_N (in) "LVDS Data Input Pair, Port A.", N13 A14_N (in) "LVDS Data Input Pair, Port A.", N14 A15_N (in) "LVDS Data Input Pair, Port A (MSB).", P1 A1_P (in) "LVDS Data Input Pair, Port A.", P2 A3_P (in) "LVDS Data Input Pair, Port A.", P3 A4_P (in) "LVDS Data Input Pair, Port A.", P4 A5_P (in) "LVDS Data Input Pair, Port A.", P5 A6_P (in) "LVDS Data Input Pair, Port A.", P6 A7_P (in) "LVDS Data Input Pair, Port A.", P7 A8_P (in) "LVDS Data Input Pair, Port A.", P8 A9_P (in) "LVDS Data Input Pair, Port A.", P9 A10_P (in) "LVDS Data Input Pair, Port A.", P10 A11_P (in) "LVDS Data Input Pair, Port A.", P11 A12_P (in) "LVDS Data Input Pair, Port A.", P12 A13_P (in) "LVDS Data Input Pair, Port A.", P13 A14_P (in) "LVDS Data Input Pair, Port A.", P14 A15_P (in) "LVDS Data Input Pair, Port A (MSB)."
part B pins: A11 IOUT3_P (hiz) "DAC 3 Positive Output Current.", A12 IOUT3_N (hiz) "DAC 3 Complementary Output Current.", B11 AUX3_P (hiz) "Auxiliary DAC 3 Positive Output Current.", B12 AUX3_N (hiz) "Auxiliary DAC 3 Complementary Output Current.", C13 AUX4_N (hiz) "Auxiliary DAC 4 Complementary Output Current.", C14 IOUT4_N (hiz) "DAC 4 Complementary Output Current.", D13 AUX4_P (hiz) "Auxiliary DAC 4 Positive Output Current.", D14 IOUT4_P (hiz) "DAC 4 Positive Output Current.", J3 B0_N (in) "LVDS Data Input Pair, Port B (LSB).", J4 B2_N (in) "LVDS Data Input Pair, Port B.", J11 B11_N (in) "LVDS Data Input Pair, Port B.", J12 B13_N (in) "LVDS Data Input Pair, Port B.", K3 B0_P (in) "LVDS Data Input Pair, Port B (LSB).", K4 B2_P (in) "LVDS Data Input Pair, Port B.", K11 B11_P (in) "LVDS Data Input Pair, Port B.", K12 B13_P (in) "LVDS Data Input Pair, Port B.", L3 B1_N (in) "LVDS Data Input Pair, Port B.", L4 B3_N (in) "LVDS Data Input Pair, Port B.", L5 B4_N (in) "LVDS Data Input Pair, Port B.", L6 B5_N (in) "LVDS Data Input Pair, Port B.", L7 B6_N (in) "LVDS Data Input Pair, Port B.", L8 B7_N (in) "LVDS Data Input Pair, Port B.", L9 B8_N (in) "LVDS Data Input Pair, Port B.", L10 B9_N (in) "LVDS Data Input Pair, Port B.", L11 B10_N (in) "LVDS Data Input Pair, Port B.", L12 B12_N (in) "LVDS Data Input Pair, Port B.", L13 B14_N (in) "LVDS Data Input Pair, Port B.", L14 B15_N (in) "LVDS Data Input Pair, Port B (MSB).", M3 B1_P (in) "LVDS Data Input Pair, Port B.", M4 B3_P (in) "LVDS Data Input Pair, Port B.", M5 B4_P (in) "LVDS Data Input Pair, Port B.", M6 B5_P (in) "LVDS Data Input Pair, Port B.", M7 B6_P (in) "LVDS Data Input Pair, Port B.", M8 B7_P (in) "LVDS Data Input Pair, Port B.", M9 B8_P (in) "LVDS Data Input Pair, Port B.", M10 B9_P (in) "LVDS Data Input Pair, Port B.", M11 B10_P (in) "LVDS Data Input Pair, Port B.", M12 B12_P (in) "LVDS Data Input Pair, Port B.", M13 B14_P (in) "LVDS Data Input Pair, Port B.", M14 B15_P (in) "LVDS Data Input Pair, Port B (MSB)."
part C pins: A6 CLK_N (in) "Negative DAC Clock Input (CLK).", A7 VREF (io) "Band Gap Voltage Reference I/O. Decouple to analog ground via a 0.1 uF capacitor. Output impedance is approximately 5 kohm.", A8 I120 "Tie to analog ground via a 10 kohm resistor to generate a 120 uA reference current.", A9 REFCLK_N/SYNC_N (in) "PLL Reference Clock Input (REFCLK_N). This pin has a secondary function as a synchronization input (SYNC_N).", B6 CLK_P (in) "Positive DAC Clock Input (CLK).", B7 NC "No Connect. Do not connect to this pin.", B8 NC "No Connect. Do not connect to this pin.", B9 REFCLK_P/SYNC_P (in) "PLL Reference Clock Input (REFCLK_P). This pin has a secondary function as a synchronization input (SYNC_P).", G1 SDO (hiz) "Serial Data Output for SPI.", G2 ~{CS} (in) "Active Low Chip Select for SPI.", G13 TMS (in) "Reserved for Future Use. Connect to DVSS.", G14 TDI (in) "Reserved for Future Use. Connect to DVSS.", H1 SDIO (io) "Serial Data Input/Output for SPI.", H2 SCLK (in) "Qualifying Clock Input for SPI.", H3 ~{RESET} (in) "An active low LVCMOS input resets the device. Pull up to IOVDD.", H4 ~{IRQ} (oc) "Active Low Open-Drain Interrupt Request Output. Pull up to IOVDD with a 10 kohm resistor.", H11 NC "No Connect. Do not connect to this pin.", H12 PLL_LOCK (out) "Active High LVCMOS Output. It indicates the lock status of the PLL circuitry.", H13 TCK (in) "Reserved for Future Use. Connect to DVSS.", H14 TDO (out) "Reserved for Future Use. Leave unconnected.", J1 FRAMEB_N (in) "LVDS Frame Input for Port B. Tie to LVDS logic low if not used. Recommended external bias circuit is shown in Figure 49.", J2 DCIB_N (in) "LVDS Data Clock Input Pair for Port B.", J13 DCIA_N (in) "LVDS Data Clock Input Pair for Port A.", J14 FRAMEA_N (in) "LVDS Frame Input for Port A. Tie to LVDS logic low if not used. Recommended external bias circuit is shown in Figure 49.", K1 FRAMEB_P (in) "LVDS Frame Input for Port B. Tie to LVDS logic low if not used. Recommended external bias circuit is shown in Figure 49.", K2 DCIB_P (in) "LVDS Data Clock Input Pair for Port B.", K13 DCIA_P (in) "LVDS Data Clock Input Pair for Port A.", K14 FRAMEA_P (in) "LVDS Frame Input for Port A. Tie to LVDS logic low if not used. Recommended external bias circuit is shown in Figure 49."
part D pins: A1 AVSS (power) "Analog Supply Ground.", A2 AVSS (power) "Analog Supply Ground.", A5 AVSS (power) "Analog Supply Ground.", A10 AVSS (power) "Analog Supply Ground.", A13 AVSS (power) "Analog Supply Ground.", A14 AVSS (power) "Analog Supply Ground.", B1 AVSS (power) "Analog Supply Ground.", B2 AVSS (power) "Analog Supply Ground.", B5 AVSS (power) "Analog Supply Ground.", B10 AVSS (power) "Analog Supply Ground.", B13 AVSS (power) "Analog Supply Ground.", B14 AVSS (power) "Analog Supply Ground.", C3 AVSS (power) "Analog Supply Ground.", C4 AVSS (power) "Analog Supply Ground.", C5 AVSS (power) "Analog Supply Ground.", C6 AVSS (power) "Analog Supply Ground.", C7 AVSS (power) "Analog Supply Ground.", C8 AVSS (power) "Analog Supply Ground.", C9 AVSS (power) "Analog Supply Ground.", C10 AVSS (power) "Analog Supply Ground.", C11 AVSS (power) "Analog Supply Ground.", C12 AVSS (power) "Analog Supply Ground.", D3 AVSS (power) "Analog Supply Ground.", D4 AVSS (power) "Analog Supply Ground.", D5 AVSS (power) "Analog Supply Ground.", D6 AVSS (power) "Analog Supply Ground.", D7 AVSS (power) "Analog Supply Ground.", D8 AVSS (power) "Analog Supply Ground.", D9 AVSS (power) "Analog Supply Ground.", D10 AVSS (power) "Analog Supply Ground.", D11 AVSS (power) "Analog Supply Ground.", D12 AVSS (power) "Analog Supply Ground.", E1 AVSS (power) "Analog Supply Ground.", E2 AVSS (power) "Analog Supply Ground.", E3 AVSS (power) "Analog Supply Ground.", E4 AVSS (power) "Analog Supply Ground.", E5 AVSS (power) "Analog Supply Ground.", E6 CVDD18 (power) "1.8 V Clock Supply.", E7 CVDD18 (power) "1.8 V Clock Supply.", E8 CVDD18 (power) "1.8 V Clock Supply.", E9 CVDD18 (power) "1.8 V Clock Supply.", E10 AVSS (power) "Analog Supply Ground.", E11 AVSS (power) "Analog Supply Ground.", E12 AVSS (power) "Analog Supply Ground.", E13 AVSS (power) "Analog Supply Ground.", E14 AVSS (power) "Analog Supply Ground.", F1 AVSS (power) "Analog Supply Ground.", F2 AVSS (power) "Analog Supply Ground.", F3 AVSS (power) "Analog Supply Ground.", F4 AVSS (power) "Analog Supply Ground.", F5 AVDD33 (power) "3.3 V Analog Supply.", F6 AVDD33 (power) "3.3 V Analog Supply.", F7 AVDD33 (power) "3.3 V Analog Supply.", F8 AVDD33 (power) "3.3 V Analog Supply.", F9 AVDD33 (power) "3.3 V Analog Supply.", F10 AVDD33 (power) "3.3 V Analog Supply.", F11 AVSS (power) "Analog Supply Ground.", F12 AVSS (power) "Analog Supply Ground.", F13 AVSS (power) "Analog Supply Ground.", F14 AVSS (power) "Analog Supply Ground.", G3 IOVDD (power) "Supply for Serial Ports (SPI and TAP), R\E\S\E\T\ and I\R\Q\. 1.8 V to 3.3 V can be supplied to these pins.", G4 IOVDD (power) "Supply for Serial Ports (SPI and TAP), R\E\S\E\T\ and I\R\Q\. 1.8 V to 3.3 V can be supplied to these pins.", G5 DVSS (power) "Digital Supply Ground.", G6 DVSS (power) "Digital Supply Ground.", G7 DVSS (power) "Digital Supply Ground.", G8 DVSS (power) "Digital Supply Ground.", G9 DVSS (power) "Digital Supply Ground.", G10 DVSS (power) "Digital Supply Ground.", G11 TRENCH (power) "Connect this pin to VSS.", G12 TRENCH (power) "Connect this pin to VSS.", H5 DVSS (power) "Digital Supply Ground.", H6 DVSS (power) "Digital Supply Ground.", H7 DVSS (power) "Digital Supply Ground.", H8 DVSS (power) "Digital Supply Ground.", H9 DVSS (power) "Digital Supply Ground.", H10 DVSS (power) "Digital Supply Ground.", J5 DVDD18 (power) "1.8 V Digital Supply.", J6 DVDD18 (power) "1.8 V Digital Supply.", J7 DVDD18 (power) "1.8 V Digital Supply.", J8 DVDD18 (power) "1.8 V Digital Supply.", J9 DVDD18 (power) "1.8 V Digital Supply.", J10 DVDD18 (power) "1.8 V Digital Supply.", K5 DVDD18 (power) "1.8 V Digital Supply.", K6 DVDD18 (power) "1.8 V Digital Supply.", K7 DVDD18 (power) "1.8 V Digital Supply.", K8 DVDD18 (power) "1.8 V Digital Supply.", K9 DVDD18 (power) "1.8 V Digital Supply.", K10 DVDD18 (power) "1.8 V Digital Supply."